# Altium integrated library TI Amplifiers and Linear Operational Amplifier General Purpose.IntLib: 1448 symbols (part 40 of 51)
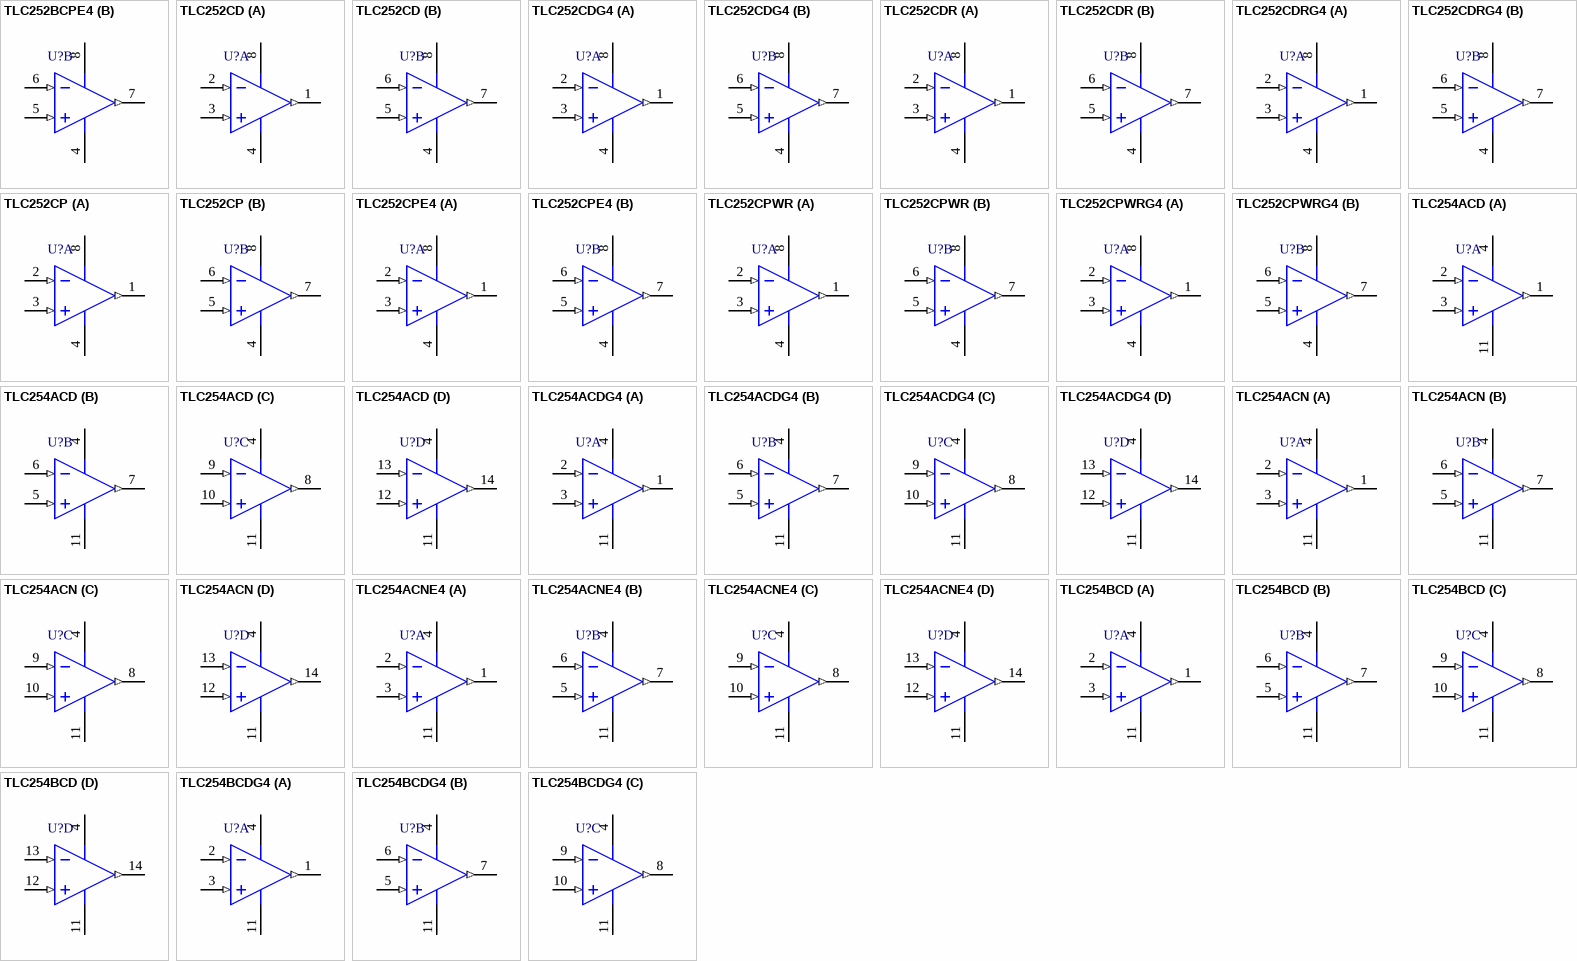
[diagram p130: symbols TLC252BCPE4 to TLC254BCDG4]

## TLC252CDRG4
designator U?
Dual Low-Voltage Operational Amplifier, 1.4 to 16 V, 0 to 70 degC, 8-pin SOIC (D8), Green (RoHS & no Sb/Br); Manufacturer: Texas Instruments; PartNumber: TLC252CDRG4; CMRR(Min)(dB): 65; GBW(Typ)(MHz): 1.7; IIB(Max)(pA): 60; Iq per channel(Max)(mA): 1.6; Number of Channels: 2; Offset Drift(Typ)(uV/C): 1.8; Rating: Catalog; Slew Rate(Typ)(V/us): 3.6; Sub Family: General Purpose Amplifier, Low Supply Voltage Amplifier (<=2.7V); Total Supply Voltage(Max)(+5V is 5, +/-5V is 10): 16; Total Supply Voltage(Min)(+5V is 5, +/-5V is 10): 1.4; Vio (25C)(Max)(mV): 10; Vn at 1kHz(Typ)(nV/rtHz): 25; DatasheetVersion: SLOS002I; PackageVersion: 4040047-3/M, 06/2011; PackageReference: D8; PackageDescription: 8-Pin Plastic Small Outline, Body 4.9 x 3.9 mm, Pitch 1.27 mm; Supplier 1: Digi-Key; Supplier Part Number 1: TLC252CDRG4-ND; Supplier 2: Mouser; Supplier Part Number 2: 595-TLC252CDRG4; Eco-Plan: Green (RoHS & no Sb/Br); Mounting Technology: Surface Mount; Code_JEDEC: MS-012; ComponentLink1Description: Manufacturer URL; ComponentLink1URL: http://www.ti.com/; ComponentLink2Description: Datasheet; ComponentLink2URL: http://www.ti.com/lit/ds/symlink/tlc252.pdf; ComponentLink3Description: Package Specification; ComponentLink3URL: http://www.ti.com/litv/pdf/msoi002j
footprint TI-D8_N (SOIC, 8-Leads, Body 4.9x3.9mm, Pitch 1.27mm, IPC Medium Density)
footprint TI-D8_L (SOIC, 8-Leads, Body 4.9x3.9mm, Pitch 1.27mm, IPC High Density)
footprint TI-D8_M (SOIC, 8-Leads, Body 4.9x3.9mm, Pitch 1.27mm, IPC Low Density)
pins on every part: 4 VDD-/GND (power), 8 VDD (power)
part A pins: 1 OUT1 (out), 2 IN1- (in), 3 IN1+ (in)
part B pins: 5 IN2+ (in), 6 IN2- (in), 7 OUT2 (out)

## TLC252CP
designator U?
Dual Low-Voltage Operational Amplifier, 1.4 to 16 V, 0 to 70 degC, 8-pin DIP (P8), Pb-Free (RoHS); Manufacturer: Texas Instruments; PartNumber: TLC252CP; CMRR(Min)(dB): 65; GBW(Typ)(MHz): 1.7; IIB(Max)(pA): 60; Iq per channel(Max)(mA): 1.6; Number of Channels: 2; Offset Drift(Typ)(uV/C): 1.8; Rating: Catalog; Slew Rate(Typ)(V/us): 3.6; Sub Family: General Purpose Amplifier, Low Supply Voltage Amplifier (<=2.7V); Total Supply Voltage(Max)(+5V is 5, +/-5V is 10): 16; Total Supply Voltage(Min)(+5V is 5, +/-5V is 10): 1.4; Vio (25C)(Max)(mV): 10; Vn at 1kHz(Typ)(nV/rtHz): 25; DatasheetVersion: SLOS002I; PackageVersion: 4040082/E, 04/2010; PackageReference: P8; PackageDescription: 8-Pin Plastic In-Line, Body 9.59 x 6.35 mm, Pitch 2.54 mm; Supplier 1: Digi-Key; Supplier Part Number 1: 296-10252-5-ND; Supplier 2: Newark; Supplier Part Number 2: 08F9041; Supplier 3: Mouser; Supplier Part Number 3: 595-TLC252CP; Eco-Plan: Pb-Free (RoHS); Mounting Technology: Through Hole; Code_JEDEC: MS-001; ComponentLink1Description: Manufacturer URL; ComponentLink1URL: http://www.ti.com/; ComponentLink2Description: Datasheet; ComponentLink2URL: http://www.ti.com/lit/ds/symlink/tlc252.pdf; ComponentLink3Description: Package Specification; ComponentLink3URL: http://www.ti.com/litv/pdf/mpdi001b
footprint TI-P8 (DIP, 8-Leads, Body 9.59x6.35mm, Pitch 2.54mm)
pins on every part: 4 VDD-/GND (power), 8 VDD (power)
part A pins: 1 OUT1 (out), 2 IN1- (in), 3 IN1+ (in)
part B pins: 5 IN2+ (in), 6 IN2- (in), 7 OUT2 (out)

## TLC252CPE4
designator U?
Dual Low-Voltage Operational Amplifier, 1.4 to 16 V, 0 to 70 degC, 8-pin DIP (P8), Pb-Free (RoHS); Manufacturer: Texas Instruments; PartNumber: TLC252CPE4; CMRR(Min)(dB): 65; GBW(Typ)(MHz): 1.7; IIB(Max)(pA): 60; Iq per channel(Max)(mA): 1.6; Number of Channels: 2; Offset Drift(Typ)(uV/C): 1.8; Rating: Catalog; Slew Rate(Typ)(V/us): 3.6; Sub Family: General Purpose Amplifier, Low Supply Voltage Amplifier (<=2.7V); Total Supply Voltage(Max)(+5V is 5, +/-5V is 10): 16; Total Supply Voltage(Min)(+5V is 5, +/-5V is 10): 1.4; Vio (25C)(Max)(mV): 10; Vn at 1kHz(Typ)(nV/rtHz): 25; DatasheetVersion: SLOS002I; PackageVersion: 4040082/E, 04/2010; PackageReference: P8; PackageDescription: 8-Pin Plastic In-Line, Body 9.59 x 6.35 mm, Pitch 2.54 mm; Supplier 1: Digi-Key; Supplier Part Number 1: TLC252CPE4-ND; Supplier 2: Newark; Supplier Part Number 2: 24K5200; Supplier 3: Mouser; Supplier Part Number 3: 595-TLC252CPE4; Eco-Plan: Pb-Free (RoHS); Mounting Technology: Through Hole; Code_JEDEC: MS-001; ComponentLink1Description: Manufacturer URL; ComponentLink1URL: http://www.ti.com/; ComponentLink2Description: Datasheet; ComponentLink2URL: http://www.ti.com/lit/ds/symlink/tlc252.pdf; ComponentLink3Description: Package Specification; ComponentLink3URL: http://www.ti.com/litv/pdf/mpdi001b
footprint TI-P8 (DIP, 8-Leads, Body 9.59x6.35mm, Pitch 2.54mm)
pins on every part: 4 VDD-/GND (power), 8 VDD (power)
part A pins: 1 OUT1 (out), 2 IN1- (in), 3 IN1+ (in)
part B pins: 5 IN2+ (in), 6 IN2- (in), 7 OUT2 (out)

## TLC252CPWR
designator U?
Dual Low-Voltage Operational Amplifier, 1.4 to 16 V, 0 to 70 degC, 8-pin SOP (PW8), Green (RoHS & no Sb/Br); Manufacturer: Texas Instruments; PartNumber: TLC252CPWR; CMRR(Min)(dB): 65; GBW(Typ)(MHz): 1.7; IIB(Max)(pA): 60; Iq per channel(Max)(mA): 1.6; Number of Channels: 2; Offset Drift(Typ)(uV/C): 1.8; Rating: Catalog; Slew Rate(Typ)(V/us): 3.6; Sub Family: General Purpose Amplifier, Low Supply Voltage Amplifier (<=2.7V); Total Supply Voltage(Max)(+5V is 5, +/-5V is 10): 16; Total Supply Voltage(Min)(+5V is 5, +/-5V is 10): 1.4; Vio (25C)(Max)(mV): 10; Vn at 1kHz(Typ)(nV/rtHz): 25; DatasheetVersion: SLOS002I; PackageVersion: 4040064-2/G, 02/2011; PackageReference: PW8; PackageDescription: 8-Pin Plastic Small Outline, Body 4.4 x 3 mm, Pitch 0.65 mm; Supplier 1: Digi-Key; Supplier Part Number 1: 296-10253-2-ND; Supplier 2: Digi-Key; Supplier Part Number 2: 296-10253-1-ND; Supplier 3: Digi-Key; Supplier Part Number 3: 296-10253-6-ND; Supplier 4: Mouser; Supplier Part Number 4: 595-TLC252CPWR; Eco-Plan: Green (RoHS & no Sb/Br); Mounting Technology: Surface Mount; Code_JEDEC: MO-153; ComponentLink1Description: Manufacturer URL; ComponentLink1URL: http://www.ti.com/; ComponentLink2Description: Datasheet; ComponentLink2URL: http://www.ti.com/lit/ds/symlink/tlc252.pdf; ComponentLink3Description: Package Specification; ComponentLink3URL: http://www.ti.com/litv/pdf/mtss001d
footprint TI-PW8_N (SOP, 8-Leads, Body 4.4x3mm, Pitch 0.65mm, IPC Medium Density)
footprint TI-PW8_L (SOP, 8-Leads, Body 4.4x3mm, Pitch 0.65mm, IPC High Density)
footprint TI-PW8_M (SOP, 8-Leads, Body 4.4x3mm, Pitch 0.65mm, IPC Low Density)
pins on every part: 4 VDD-/GND (power), 8 VDD (power)
part A pins: 1 OUT1 (out), 2 IN1- (in), 3 IN1+ (in)
part B pins: 5 IN2+ (in), 6 IN2- (in), 7 OUT2 (out)

## TLC252CPWRG4
designator U?
Dual Low-Voltage Operational Amplifier, 1.4 to 16 V, 0 to 70 degC, 8-pin SOP (PW8), Green (RoHS & no Sb/Br); Manufacturer: Texas Instruments; PartNumber: TLC252CPWRG4; CMRR(Min)(dB): 65; GBW(Typ)(MHz): 1.7; IIB(Max)(pA): 60; Iq per channel(Max)(mA): 1.6; Number of Channels: 2; Offset Drift(Typ)(uV/C): 1.8; Rating: Catalog; Slew Rate(Typ)(V/us): 3.6; Sub Family: General Purpose Amplifier, Low Supply Voltage Amplifier (<=2.7V); Total Supply Voltage(Max)(+5V is 5, +/-5V is 10): 16; Total Supply Voltage(Min)(+5V is 5, +/-5V is 10): 1.4; Vio (25C)(Max)(mV): 10; Vn at 1kHz(Typ)(nV/rtHz): 25; DatasheetVersion: SLOS002I; PackageVersion: 4040064-2/G, 02/2011; PackageReference: PW8; PackageDescription: 8-Pin Plastic Small Outline, Body 4.4 x 3 mm, Pitch 0.65 mm; Supplier 1: Digi-Key; Supplier Part Number 1: TLC252CPWRG4-ND; Supplier 2: Mouser; Supplier Part Number 2: 595-TLC252CPWRG4; Eco-Plan: Green (RoHS & no Sb/Br); Mounting Technology: Surface Mount; Code_JEDEC: MO-153; ComponentLink1Description: Manufacturer URL; ComponentLink1URL: http://www.ti.com/; ComponentLink2Description: Datasheet; ComponentLink2URL: http://www.ti.com/lit/ds/symlink/tlc252.pdf; ComponentLink3Description: Package Specification; ComponentLink3URL: http://www.ti.com/litv/pdf/mtss001d
footprint TI-PW8_N (SOP, 8-Leads, Body 4.4x3mm, Pitch 0.65mm, IPC Medium Density)
footprint TI-PW8_L (SOP, 8-Leads, Body 4.4x3mm, Pitch 0.65mm, IPC High Density)
footprint TI-PW8_M (SOP, 8-Leads, Body 4.4x3mm, Pitch 0.65mm, IPC Low Density)
pins on every part: 4 VDD-/GND (power), 8 VDD (power)
part A pins: 1 OUT1 (out), 2 IN1- (in), 3 IN1+ (in)
part B pins: 5 IN2+ (in), 6 IN2- (in), 7 OUT2 (out)

## TLC254ACD
designator U?
LinCMOS(TM) Quad Operational Amplifier, 1.4 to 16 V, 0 to 70 degC, 14-pin SOIC (D14), Green (RoHS & no Sb/Br); Manufacturer: Texas Instruments; PartNumber: TLC254ACD; CMRR(Min)(dB): 65; GBW(Typ)(MHz): 1.7; IIB(Max)(pA): 60; Iq per channel(Max)(mA): 1.5; Number of Channels: 4; Offset Drift(Typ)(uV/C): 1.8; Rating: Catalog; Slew Rate(Typ)(V/us): 3.6; Sub Family: General Purpose Amplifier, Low Supply Voltage Amplifier (<=2.7V); Total Supply Voltage(Max)(+5V is 5, +/-5V is 10): 16; Total Supply Voltage(Min)(+5V is 5, +/-5V is 10): 1.4; Vio (25C)(Max)(mV): 5; Vn at 1kHz(Typ)(nV/rtHz): 25; DatasheetVersion: SLOS003G; PackageVersion: 4040047-5/M, 06/2011; PackageReference: D14; PackageDescription: 14-Pin Plastic Small Outline, Body 8.65 x 3.90 mm, Pitch 1.27 mm; Supplier 1: Digi-Key; Supplier Part Number 1: 296-2902-5-ND; Supplier 2: Mouser; Supplier Part Number 2: 595-TLC254ACD; Eco-Plan: Green (RoHS & no Sb/Br); Mounting Technology: Surface Mount; Code_JEDEC: MS-012; ComponentLink1Description: Manufacturer URL; ComponentLink1URL: http://www.ti.com/; ComponentLink2Description: Datasheet; ComponentLink2URL: http://www.ti.com/lit/ds/symlink/tlc254a.pdf; ComponentLink3Description: Package Specification; ComponentLink3URL: http://www.ti.com/lit/ml/mpds177g/mpds177g.pdf
footprint TI-D14_N (SOIC, 14-Leads, Body 8.65x3.90mm, Pitch 1.27mm, IPC Medium Density)
footprint TI-D14_L (SOIC, 14-Leads, Body 8.65x3.90mm, Pitch 1.27mm, IPC High Density)
footprint TI-D14_M (SOIC, 14-Leads, Body 8.65x3.90mm, Pitch 1.27mm, IPC Low Density)
pins on every part: 4 VDD (power), 11 VDD-/GND (power)
part A pins: 1 OUT1 (out), 2 IN1- (in), 3 IN1+ (in)
part B pins: 5 IN2+ (in), 6 IN2- (in), 7 OUT2 (out)
part C pins: 8 OUT3 (out), 9 IN3- (in), 10 IN3+ (in)
part D pins: 12 IN4+ (in), 13 IN4- (in), 14 OUT4 (out)

## TLC254ACDG4
designator U?
LinCMOS(TM) Quad Operational Amplifier, 1.4 to 16 V, 0 to 70 degC, 14-pin SOIC (D14), Green (RoHS & no Sb/Br); Manufacturer: Texas Instruments; PartNumber: TLC254ACDG4; CMRR(Min)(dB): 65; GBW(Typ)(MHz): 1.7; IIB(Max)(pA): 60; Iq per channel(Max)(mA): 1.5; Number of Channels: 4; Offset Drift(Typ)(uV/C): 1.8; Rating: Catalog; Slew Rate(Typ)(V/us): 3.6; Sub Family: General Purpose Amplifier, Low Supply Voltage Amplifier (<=2.7V); Total Supply Voltage(Max)(+5V is 5, +/-5V is 10): 16; Total Supply Voltage(Min)(+5V is 5, +/-5V is 10): 1.4; Vio (25C)(Max)(mV): 5; Vn at 1kHz(Typ)(nV/rtHz): 25; DatasheetVersion: SLOS003G; PackageVersion: 4040047-5/M, 06/2011; PackageReference: D14; PackageDescription: 14-Pin Plastic Small Outline, Body 8.65 x 3.90 mm, Pitch 1.27 mm; Supplier 1: Digi-Key; Supplier Part Number 1: TLC254ACDG4-ND; Supplier 2: Mouser; Supplier Part Number 2: 595-TLC254ACDG4; Eco-Plan: Green (RoHS & no Sb/Br); Mounting Technology: Surface Mount; Code_JEDEC: MS-012; ComponentLink1Description: Manufacturer URL; ComponentLink1URL: http://www.ti.com/; ComponentLink2Description: Datasheet; ComponentLink2URL: http://www.ti.com/lit/ds/symlink/tlc254a.pdf; ComponentLink3Description: Package Specification; ComponentLink3URL: http://www.ti.com/lit/ml/mpds177g/mpds177g.pdf
footprint TI-D14_N (SOIC, 14-Leads, Body 8.65x3.90mm, Pitch 1.27mm, IPC Medium Density)
footprint TI-D14_L (SOIC, 14-Leads, Body 8.65x3.90mm, Pitch 1.27mm, IPC High Density)
footprint TI-D14_M (SOIC, 14-Leads, Body 8.65x3.90mm, Pitch 1.27mm, IPC Low Density)
pins on every part: 4 VDD (power), 11 VDD-/GND (power)
part A pins: 1 OUT1 (out), 2 IN1- (in), 3 IN1+ (in)
part B pins: 5 IN2+ (in), 6 IN2- (in), 7 OUT2 (out)
part C pins: 8 OUT3 (out), 9 IN3- (in), 10 IN3+ (in)
part D pins: 12 IN4+ (in), 13 IN4- (in), 14 OUT4 (out)

## TLC254ACN
designator U?
LinCMOS(TM) Quad Operational Amplifier, 1.4 to 16 V, 0 to 70 degC, 14-pin DIP (N14), Pb-Free (RoHS); Manufacturer: Texas Instruments; PartNumber: TLC254ACN; CMRR(Min)(dB): 65; GBW(Typ)(MHz): 1.7; IIB(Max)(pA): 60; Iq per channel(Max)(mA): 1.5; Number of Channels: 4; Offset Drift(Typ)(uV/C): 1.8; Rating: Catalog; Slew Rate(Typ)(V/us): 3.6; Sub Family: General Purpose Amplifier, Low Supply Voltage Amplifier (<=2.7V); Total Supply Voltage(Max)(+5V is 5, +/-5V is 10): 16; Total Supply Voltage(Min)(+5V is 5, +/-5V is 10): 1.4; Vio (25C)(Max)(mV): 5; Vn at 1kHz(Typ)(nV/rtHz): 25; DatasheetVersion: SLOS003G; PackageVersion: 4040049/E, 12/2002; PackageReference: N14; PackageDescription: 14-Pin Plastic In-Line, Body 19.305 x 6.35 mm, Pitch 2.54 mm; Supplier 1: Digi-Key; Supplier Part Number 1: 296-2903-5-ND; Supplier 2: Mouser; Supplier Part Number 2: 595-TLC254ACN; Eco-Plan: Pb-Free (RoHS); Mounting Technology: Through Hole; Code_JEDEC: MS-001; ComponentLink1Description: Manufacturer URL; ComponentLink1URL: http://www.ti.com/; ComponentLink2Description: Datasheet; ComponentLink2URL: http://www.ti.com/lit/ds/symlink/tlc254a.pdf; ComponentLink3Description: Package Specification; ComponentLink3URL: http://www.ti.com/lit/ml/mpdi002c/mpdi002c.pdf
footprint TI-N14 (DIP, 14-Leads, Body 19.305x6.35 mm, Pitch 2.54 mm)
pins on every part: 4 VDD (power), 11 VDD-/GND (power)
part A pins: 1 OUT1 (out), 2 IN1- (in), 3 IN1+ (in)
part B pins: 5 IN2+ (in), 6 IN2- (in), 7 OUT2 (out)
part C pins: 8 OUT3 (out), 9 IN3- (in), 10 IN3+ (in)
part D pins: 12 IN4+ (in), 13 IN4- (in), 14 OUT4 (out)

## TLC254ACNE4
designator U?
LinCMOS(TM) Quad Operational Amplifier, 1.4 to 16 V, 0 to 70 degC, 14-pin DIP (N14), Pb-Free (RoHS); Manufacturer: Texas Instruments; PartNumber: TLC254ACNE4; CMRR(Min)(dB): 65; GBW(Typ)(MHz): 1.7; IIB(Max)(pA): 60; Iq per channel(Max)(mA): 1.5; Number of Channels: 4; Offset Drift(Typ)(uV/C): 1.8; Rating: Catalog; Slew Rate(Typ)(V/us): 3.6; Sub Family: General Purpose Amplifier, Low Supply Voltage Amplifier (<=2.7V); Total Supply Voltage(Max)(+5V is 5, +/-5V is 10): 16; Total Supply Voltage(Min)(+5V is 5, +/-5V is 10): 1.4; Vio (25C)(Max)(mV): 5; Vn at 1kHz(Typ)(nV/rtHz): 25; DatasheetVersion: SLOS003G; PackageVersion: 4040049/E, 12/2002; PackageReference: N14; PackageDescription: 14-Pin Plastic In-Line, Body 19.305 x 6.35 mm, Pitch 2.54 mm; Supplier 1: Digi-Key; Supplier Part Number 1: TLC254ACNE4-ND; Supplier 2: Mouser; Supplier Part Number 2: 595-TLC254ACNE4; Eco-Plan: Pb-Free (RoHS); Mounting Technology: Through Hole; Code_JEDEC: MS-001; ComponentLink1Description: Manufacturer URL; ComponentLink1URL: http://www.ti.com/; ComponentLink2Description: Datasheet; ComponentLink2URL: http://www.ti.com/lit/ds/symlink/tlc254a.pdf; ComponentLink3Description: Package Specification; ComponentLink3URL: http://www.ti.com/lit/ml/mpdi002c/mpdi002c.pdf
footprint TI-N14 (DIP, 14-Leads, Body 19.305x6.35 mm, Pitch 2.54 mm)
pins on every part: 4 VDD (power), 11 VDD-/GND (power)
part A pins: 1 OUT1 (out), 2 IN1- (in), 3 IN1+ (in)
part B pins: 5 IN2+ (in), 6 IN2- (in), 7 OUT2 (out)
part C pins: 8 OUT3 (out), 9 IN3- (in), 10 IN3+ (in)
part D pins: 12 IN4+ (in), 13 IN4- (in), 14 OUT4 (out)

## TLC254BCD
designator U?
LinCMOS(TM) Quad Operational Amplifier, 1.4 to 16 V, 0 to 70 degC, 14-pin SOIC (D14), Green (RoHS & no Sb/Br); Manufacturer: Texas Instruments; PartNumber: TLC254BCD; CMRR(Min)(dB): 65; GBW(Typ)(MHz): 1.7; IIB(Max)(pA): 60; Iq per channel(Max)(mA): 1.5; Number of Channels: 4; Offset Drift(Typ)(uV/C): 1.8; Rating: Catalog; Slew Rate(Typ)(V/us): 3.6; Sub Family: General Purpose Amplifier, Low Supply Voltage Amplifier (<=2.7V); Total Supply Voltage(Max)(+5V is 5, +/-5V is 10): 16; Total Supply Voltage(Min)(+5V is 5, +/-5V is 10): 1.4; Vio (25C)(Max)(mV): 2; Vn at 1kHz(Typ)(nV/rtHz): 25; DatasheetVersion: SLOS003G; PackageVersion: 4040047-5/M, 06/2011; PackageReference: D14; PackageDescription: 14-Pin Plastic Small Outline, Body 8.65 x 3.90 mm, Pitch 1.27 mm; Supplier 1: Digi-Key; Supplier Part Number 1: 296-2904-5-ND; Supplier 2: Mouser; Supplier Part Number 2: 595-TLC254BCD; Eco-Plan: Green (RoHS & no Sb/Br); Mounting Technology: Surface Mount; Code_JEDEC: MS-012; ComponentLink1Description: Manufacturer URL; ComponentLink1URL: http://www.ti.com/; ComponentLink2Description: Datasheet; ComponentLink2URL: http://www.ti.com/lit/ds/symlink/tlc254b.pdf; ComponentLink3Description: Package Specification; ComponentLink3URL: http://www.ti.com/lit/ml/mpds177g/mpds177g.pdf
footprint TI-D14_N (SOIC, 14-Leads, Body 8.65x3.90mm, Pitch 1.27mm, IPC Medium Density)
footprint TI-D14_L (SOIC, 14-Leads, Body 8.65x3.90mm, Pitch 1.27mm, IPC High Density)
footprint TI-D14_M (SOIC, 14-Leads, Body 8.65x3.90mm, Pitch 1.27mm, IPC Low Density)
pins on every part: 4 VDD (power), 11 VDD-/GND (power)
part A pins: 1 OUT1 (out), 2 IN1- (in), 3 IN1+ (in)
part B pins: 5 IN2+ (in), 6 IN2- (in), 7 OUT2 (out)
part C pins: 8 OUT3 (out), 9 IN3- (in), 10 IN3+ (in)
part D pins: 12 IN4+ (in), 13 IN4- (in), 14 OUT4 (out)

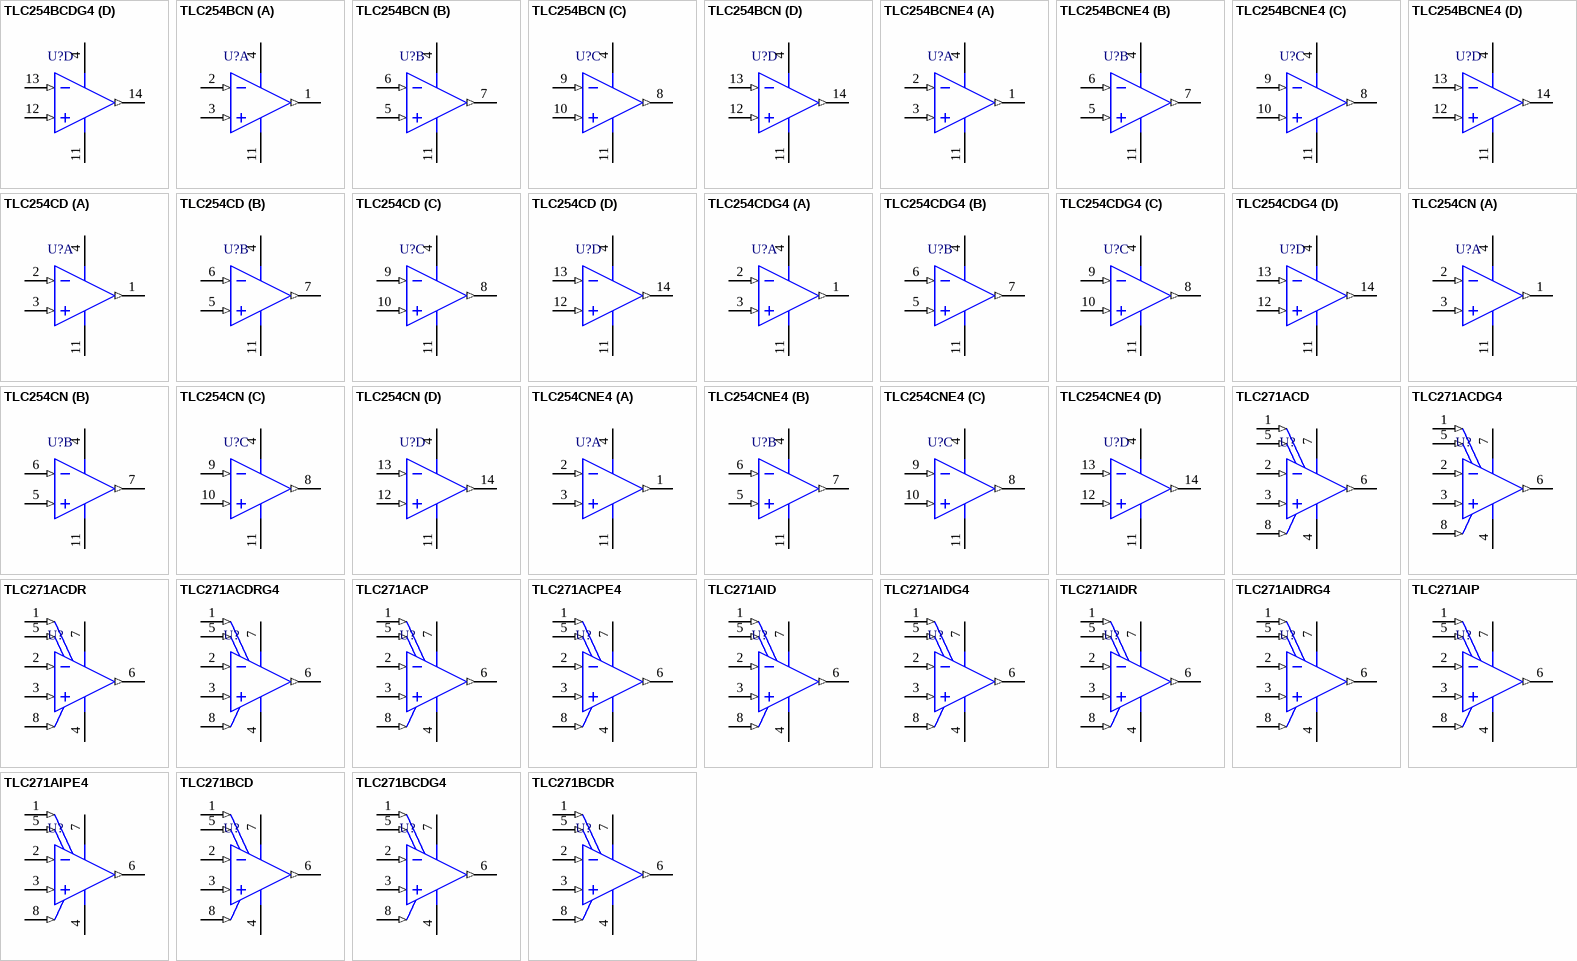
[diagram p70: symbols TLC254BCDG4 to TLC271BCDR]

## TLC254BCDG4
designator U?
LinCMOS(TM) Quad Operational Amplifier, 1.4 to 16 V, 0 to 70 degC, 14-pin SOIC (D14), Green (RoHS & no Sb/Br); Manufacturer: Texas Instruments; PartNumber: TLC254BCDG4; CMRR(Min)(dB): 65; GBW(Typ)(MHz): 1.7; IIB(Max)(pA): 60; Iq per channel(Max)(mA): 1.5; Number of Channels: 4; Offset Drift(Typ)(uV/C): 1.8; Rating: Catalog; Slew Rate(Typ)(V/us): 3.6; Sub Family: General Purpose Amplifier, Low Supply Voltage Amplifier (<=2.7V); Total Supply Voltage(Max)(+5V is 5, +/-5V is 10): 16; Total Supply Voltage(Min)(+5V is 5, +/-5V is 10): 1.4; Vio (25C)(Max)(mV): 2; Vn at 1kHz(Typ)(nV/rtHz): 25; DatasheetVersion: SLOS003G; PackageVersion: 4040047-5/M, 06/2011; PackageReference: D14; PackageDescription: 14-Pin Plastic Small Outline, Body 8.65 x 3.90 mm, Pitch 1.27 mm; Supplier 1: Digi-Key; Supplier Part Number 1: TLC254BCDG4-ND; Supplier 2: Newark; Supplier Part Number 2: 27M0959; Supplier 3: Mouser; Supplier Part Number 3: 595-TLC254BCDG4; Eco-Plan: Green (RoHS & no Sb/Br); Mounting Technology: Surface Mount; Code_JEDEC: MS-012; ComponentLink1Description: Manufacturer URL; ComponentLink1URL: http://www.ti.com/; ComponentLink2Description: Datasheet; ComponentLink2URL: http://www.ti.com/lit/ds/symlink/tlc254b.pdf; ComponentLink3Description: Package Specification; ComponentLink3URL: http://www.ti.com/lit/ml/mpds177g/mpds177g.pdf
footprint TI-D14_N (SOIC, 14-Leads, Body 8.65x3.90mm, Pitch 1.27mm, IPC Medium Density)
footprint TI-D14_L (SOIC, 14-Leads, Body 8.65x3.90mm, Pitch 1.27mm, IPC High Density)
footprint TI-D14_M (SOIC, 14-Leads, Body 8.65x3.90mm, Pitch 1.27mm, IPC Low Density)
pins on every part: 4 VDD (power), 11 VDD-/GND (power)
part A pins: 1 OUT1 (out), 2 IN1- (in), 3 IN1+ (in)
part B pins: 5 IN2+ (in), 6 IN2- (in), 7 OUT2 (out)
part C pins: 8 OUT3 (out), 9 IN3- (in), 10 IN3+ (in)
part D pins: 12 IN4+ (in), 13 IN4- (in), 14 OUT4 (out)

## TLC254BCN
designator U?
LinCMOS(TM) Quad Operational Amplifier, 1.4 to 16 V, 0 to 70 degC, 14-pin DIP (N14), Pb-Free (RoHS); Manufacturer: Texas Instruments; PartNumber: TLC254BCN; CMRR(Min)(dB): 65; GBW(Typ)(MHz): 1.7; IIB(Max)(pA): 60; Iq per channel(Max)(mA): 1.5; Number of Channels: 4; Offset Drift(Typ)(uV/C): 1.8; Rating: Catalog; Slew Rate(Typ)(V/us): 3.6; Sub Family: General Purpose Amplifier, Low Supply Voltage Amplifier (<=2.7V); Total Supply Voltage(Max)(+5V is 5, +/-5V is 10): 16; Total Supply Voltage(Min)(+5V is 5, +/-5V is 10): 1.4; Vio (25C)(Max)(mV): 2; Vn at 1kHz(Typ)(nV/rtHz): 25; DatasheetVersion: SLOS003G; PackageVersion: 4040049/E, 12/2002; PackageReference: N14; PackageDescription: 14-Pin Plastic In-Line, Body 19.305 x 6.35 mm, Pitch 2.54 mm; Supplier 1: Digi-Key; Supplier Part Number 1: 296-2905-5-ND; Supplier 2: Newark; Supplier Part Number 2: 08F9043; Supplier 3: Mouser; Supplier Part Number 3: 595-TLC254BCN; Eco-Plan: Pb-Free (RoHS); Mounting Technology: Through Hole; Code_JEDEC: MS-001; ComponentLink1Description: Manufacturer URL; ComponentLink1URL: http://www.ti.com/; ComponentLink2Description: Datasheet; ComponentLink2URL: http://www.ti.com/lit/ds/symlink/tlc254b.pdf; ComponentLink3Description: Package Specification; ComponentLink3URL: http://www.ti.com/lit/ml/mpdi002c/mpdi002c.pdf
footprint TI-N14 (DIP, 14-Leads, Body 19.305x6.35 mm, Pitch 2.54 mm)
pins on every part: 4 VDD (power), 11 VDD-/GND (power)
part A pins: 1 OUT1 (out), 2 IN1- (in), 3 IN1+ (in)
part B pins: 5 IN2+ (in), 6 IN2- (in), 7 OUT2 (out)
part C pins: 8 OUT3 (out), 9 IN3- (in), 10 IN3+ (in)
part D pins: 12 IN4+ (in), 13 IN4- (in), 14 OUT4 (out)

## TLC254BCNE4
designator U?
LinCMOS(TM) Quad Operational Amplifier, 1.4 to 16 V, 0 to 70 degC, 14-pin DIP (N14), Pb-Free (RoHS); Manufacturer: Texas Instruments; PartNumber: TLC254BCNE4; CMRR(Min)(dB): 65; GBW(Typ)(MHz): 1.7; IIB(Max)(pA): 60; Iq per channel(Max)(mA): 1.5; Number of Channels: 4; Offset Drift(Typ)(uV/C): 1.8; Rating: Catalog; Slew Rate(Typ)(V/us): 3.6; Sub Family: General Purpose Amplifier, Low Supply Voltage Amplifier (<=2.7V); Total Supply Voltage(Max)(+5V is 5, +/-5V is 10): 16; Total Supply Voltage(Min)(+5V is 5, +/-5V is 10): 1.4; Vio (25C)(Max)(mV): 2; Vn at 1kHz(Typ)(nV/rtHz): 25; DatasheetVersion: SLOS003G; PackageVersion: 4040049/E, 12/2002; PackageReference: N14; PackageDescription: 14-Pin Plastic In-Line, Body 19.305 x 6.35 mm, Pitch 2.54 mm; Supplier 1: Digi-Key; Supplier Part Number 1: TLC254BCNE4-ND; Supplier 2: Mouser; Supplier Part Number 2: 595-TLC254BCNE4; Eco-Plan: Pb-Free (RoHS); Mounting Technology: Through Hole; Code_JEDEC: MS-001; ComponentLink1Description: Manufacturer URL; ComponentLink1URL: http://www.ti.com/; ComponentLink2Description: Datasheet; ComponentLink2URL: http://www.ti.com/lit/ds/symlink/tlc254b.pdf; ComponentLink3Description: Package Specification; ComponentLink3URL: http://www.ti.com/lit/ml/mpdi002c/mpdi002c.pdf
footprint TI-N14 (DIP, 14-Leads, Body 19.305x6.35 mm, Pitch 2.54 mm)
pins on every part: 4 VDD (power), 11 VDD-/GND (power)
part A pins: 1 OUT1 (out), 2 IN1- (in), 3 IN1+ (in)
part B pins: 5 IN2+ (in), 6 IN2- (in), 7 OUT2 (out)
part C pins: 8 OUT3 (out), 9 IN3- (in), 10 IN3+ (in)
part D pins: 12 IN4+ (in), 13 IN4- (in), 14 OUT4 (out)

## TLC254CD
designator U?
Quad Low-Voltage Operational Amplifier, 1.4 to 16 V, 0 to 70 degC, 14-pin SOIC (D14), Green (RoHS & no Sb/Br); Manufacturer: Texas Instruments; PartNumber: TLC254CD; CMRR(Min)(dB): 65; GBW(Typ)(MHz): 1.7; IIB(Max)(pA): 60; Iq per channel(Max)(mA): 1.6; Number of Channels: 4; Offset Drift(Typ)(uV/C): 1.8; Rating: Catalog; Slew Rate(Typ)(V/us): 3.6; Sub Family: General Purpose Amplifier, Low Supply Voltage Amplifier (<=2.7V); Total Supply Voltage(Max)(+5V is 5, +/-5V is 10): 16; Total Supply Voltage(Min)(+5V is 5, +/-5V is 10): 1.4; Vio (25C)(Max)(mV): 10; Vn at 1kHz(Typ)(nV/rtHz): 25; DatasheetVersion: SLOS003G; PackageVersion: 4040047-5/M, 06/2011; PackageReference: D14; PackageDescription: 14-Pin Plastic Small Outline, Body 8.65 x 3.90 mm, Pitch 1.27 mm; Supplier 1: Digi-Key; Supplier Part Number 1: 296-2906-5-ND; Supplier 2: Newark; Supplier Part Number 2: 76C6980; Supplier 3: Mouser; Supplier Part Number 3: 595-TLC254CD; Eco-Plan: Green (RoHS & no Sb/Br); Mounting Technology: Surface Mount; Code_JEDEC: MS-012; ComponentLink1Description: Manufacturer URL; ComponentLink1URL: http://www.ti.com/; ComponentLink2Description: Datasheet; ComponentLink2URL: http://www.ti.com/lit/ds/symlink/tlc254.pdf; ComponentLink3Description: Package Specification; ComponentLink3URL: http://www.ti.com/lit/ml/mpds177g/mpds177g.pdf
footprint TI-D14_N (SOIC, 14-Leads, Body 8.65x3.90mm, Pitch 1.27mm, IPC Medium Density)
footprint TI-D14_L (SOIC, 14-Leads, Body 8.65x3.90mm, Pitch 1.27mm, IPC High Density)
footprint TI-D14_M (SOIC, 14-Leads, Body 8.65x3.90mm, Pitch 1.27mm, IPC Low Density)
pins on every part: 4 VDD (power), 11 VDD-/GND (power)
part A pins: 1 OUT1 (out), 2 IN1- (in), 3 IN1+ (in)
part B pins: 5 IN2+ (in), 6 IN2- (in), 7 OUT2 (out)
part C pins: 8 OUT3 (out), 9 IN3- (in), 10 IN3+ (in)
part D pins: 12 IN4+ (in), 13 IN4- (in), 14 OUT4 (out)

## TLC254CDG4
designator U?
Quad Low-Voltage Operational Amplifier, 1.4 to 16 V, 0 to 70 degC, 14-pin SOIC (D14), Green (RoHS & no Sb/Br); Manufacturer: Texas Instruments; PartNumber: TLC254CDG4; CMRR(Min)(dB): 65; GBW(Typ)(MHz): 1.7; IIB(Max)(pA): 60; Iq per channel(Max)(mA): 1.6; Number of Channels: 4; Offset Drift(Typ)(uV/C): 1.8; Rating: Catalog; Slew Rate(Typ)(V/us): 3.6; Sub Family: General Purpose Amplifier, Low Supply Voltage Amplifier (<=2.7V); Total Supply Voltage(Max)(+5V is 5, +/-5V is 10): 16; Total Supply Voltage(Min)(+5V is 5, +/-5V is 10): 1.4; Vio (25C)(Max)(mV): 10; Vn at 1kHz(Typ)(nV/rtHz): 25; DatasheetVersion: SLOS003G; PackageVersion: 4040047-5/M, 06/2011; PackageReference: D14; PackageDescription: 14-Pin Plastic Small Outline, Body 8.65 x 3.90 mm, Pitch 1.27 mm; Supplier 1: Digi-Key; Supplier Part Number 1: TLC254CDG4-ND; Supplier 2: Mouser; Supplier Part Number 2: 595-TLC254CDG4; Eco-Plan: Green (RoHS & no Sb/Br); Mounting Technology: Surface Mount; Code_JEDEC: MS-012; ComponentLink1Description: Manufacturer URL; ComponentLink1URL: http://www.ti.com/; ComponentLink2Description: Datasheet; ComponentLink2URL: http://www.ti.com/lit/ds/symlink/tlc254.pdf; ComponentLink3Description: Package Specification; ComponentLink3URL: http://www.ti.com/lit/ml/mpds177g/mpds177g.pdf
footprint TI-D14_N (SOIC, 14-Leads, Body 8.65x3.90mm, Pitch 1.27mm, IPC Medium Density)
footprint TI-D14_L (SOIC, 14-Leads, Body 8.65x3.90mm, Pitch 1.27mm, IPC High Density)
footprint TI-D14_M (SOIC, 14-Leads, Body 8.65x3.90mm, Pitch 1.27mm, IPC Low Density)
pins on every part: 4 VDD (power), 11 VDD-/GND (power)
part A pins: 1 OUT1 (out), 2 IN1- (in), 3 IN1+ (in)
part B pins: 5 IN2+ (in), 6 IN2- (in), 7 OUT2 (out)
part C pins: 8 OUT3 (out), 9 IN3- (in), 10 IN3+ (in)
part D pins: 12 IN4+ (in), 13 IN4- (in), 14 OUT4 (out)

## TLC254CN
designator U?
Quad Low-Voltage Operational Amplifier, 1.4 to 16 V, 0 to 70 degC, 14-pin DIP (N14), Pb-Free (RoHS); Manufacturer: Texas Instruments; PartNumber: TLC254CN; CMRR(Min)(dB): 65; GBW(Typ)(MHz): 1.7; IIB(Max)(pA): 60; Iq per channel(Max)(mA): 1.6; Number of Channels: 4; Offset Drift(Typ)(uV/C): 1.8; Rating: Catalog; Slew Rate(Typ)(V/us): 3.6; Sub Family: General Purpose Amplifier, Low Supply Voltage Amplifier (<=2.7V); Total Supply Voltage(Max)(+5V is 5, +/-5V is 10): 16; Total Supply Voltage(Min)(+5V is 5, +/-5V is 10): 1.4; Vio (25C)(Max)(mV): 10; Vn at 1kHz(Typ)(nV/rtHz): 25; DatasheetVersion: SLOS003G; PackageVersion: 4040049/E, 12/2002; PackageReference: N14; PackageDescription: 14-Pin Plastic In-Line, Body 19.305 x 6.35 mm, Pitch 2.54 mm; Supplier 1: Digi-Key; Supplier Part Number 1: 296-2907-5-ND; Supplier 2: Newark; Supplier Part Number 2: 08F9044; Supplier 3: Mouser; Supplier Part Number 3: 595-TLC254CN; Eco-Plan: Pb-Free (RoHS); Mounting Technology: Through Hole; Code_JEDEC: MS-001; ComponentLink1Description: Manufacturer URL; ComponentLink1URL: http://www.ti.com/; ComponentLink2Description: Datasheet; ComponentLink2URL: http://www.ti.com/lit/ds/symlink/tlc254.pdf; ComponentLink3Description: Package Specification; ComponentLink3URL: http://www.ti.com/lit/ml/mpdi002c/mpdi002c.pdf
footprint TI-N14 (DIP, 14-Leads, Body 19.305x6.35 mm, Pitch 2.54 mm)
pins on every part: 4 VDD (power), 11 VDD-/GND (power)
part A pins: 1 OUT1 (out), 2 IN1- (in), 3 IN1+ (in)
part B pins: 5 IN2+ (in), 6 IN2- (in), 7 OUT2 (out)
part C pins: 8 OUT3 (out), 9 IN3- (in), 10 IN3+ (in)
part D pins: 12 IN4+ (in), 13 IN4- (in), 14 OUT4 (out)

## TLC254CNE4
designator U?
Quad Low-Voltage Operational Amplifier, 1.4 to 16 V, 0 to 70 degC, 14-pin DIP (N14), Pb-Free (RoHS); Manufacturer: Texas Instruments; PartNumber: TLC254CNE4; CMRR(Min)(dB): 65; GBW(Typ)(MHz): 1.7; IIB(Max)(pA): 60; Iq per channel(Max)(mA): 1.6; Number of Channels: 4; Offset Drift(Typ)(uV/C): 1.8; Rating: Catalog; Slew Rate(Typ)(V/us): 3.6; Sub Family: General Purpose Amplifier, Low Supply Voltage Amplifier (<=2.7V); Total Supply Voltage(Max)(+5V is 5, +/-5V is 10): 16; Total Supply Voltage(Min)(+5V is 5, +/-5V is 10): 1.4; Vio (25C)(Max)(mV): 10; Vn at 1kHz(Typ)(nV/rtHz): 25; DatasheetVersion: SLOS003G; PackageVersion: 4040049/E, 12/2002; PackageReference: N14; PackageDescription: 14-Pin Plastic In-Line, Body 19.305 x 6.35 mm, Pitch 2.54 mm; Supplier 1: Digi-Key; Supplier Part Number 1: TLC254CNE4-ND; Supplier 2: Mouser; Supplier Part Number 2: 595-TLC254CNE4; Eco-Plan: Pb-Free (RoHS); Mounting Technology: Through Hole; Code_JEDEC: MS-001; ComponentLink1Description: Manufacturer URL; ComponentLink1URL: http://www.ti.com/; ComponentLink2Description: Datasheet; ComponentLink2URL: http://www.ti.com/lit/ds/symlink/tlc254.pdf; ComponentLink3Description: Package Specification; ComponentLink3URL: http://www.ti.com/lit/ml/mpdi002c/mpdi002c.pdf
footprint TI-N14 (DIP, 14-Leads, Body 19.305x6.35 mm, Pitch 2.54 mm)
pins on every part: 4 VDD (power), 11 VDD-/GND (power)
part A pins: 1 OUT1 (out), 2 IN1- (in), 3 IN1+ (in)
part B pins: 5 IN2+ (in), 6 IN2- (in), 7 OUT2 (out)
part C pins: 8 OUT3 (out), 9 IN3- (in), 10 IN3+ (in)
part D pins: 12 IN4+ (in), 13 IN4- (in), 14 OUT4 (out)

## TLC271ACD
designator U?
Programmable Low-Power Operational Amplifier, 3 to 16 V, 0 to 70 degC, 8-pin SOIC (D8), Green (RoHS & no Sb/Br); Manufacturer: Texas Instruments; PartNumber: TLC271ACD; CMRR(Min)(dB): 65; GBW(Typ)(MHz): 1.7; IIB(Max)(pA): 60; Iq per channel(Max)(mA): 1.6; Number of Channels: 1; Offset Drift(Typ)(uV/C): 1.8; Rating: Catalog; Slew Rate(Typ)(V/us): 3.6; Sub Family: General Purpose Amplifier; Total Supply Voltage(Max)(+5V is 5, +/-5V is 10): 16; Total Supply Voltage(Min)(+5V is 5, +/-5V is 10): 3; Vio (25C)(Max)(mV): 5; Vn at 1kHz(Typ)(nV/rtHz): 25; DatasheetVersion: SLOS090D; PackageVersion: 4040047-3/M, 06/2011; PackageReference: D8; PackageDescription: 8-Pin Plastic Small Outline, Body 4.9 x 3.9 mm, Pitch 1.27 mm; Supplier 1: Digi-Key; Supplier Part Number 1: 296-7338-5-ND; Supplier 2: Farnell; Supplier Part Number 2: 2386707; Supplier 3: Newark; Supplier Part Number 3: 08F9076; Supplier 4: Mouser; Supplier Part Number 4: 595-TLC271ACD; Eco-Plan: Green (RoHS & no Sb/Br); Mounting Technology: Surface Mount; Code_JEDEC: MS-012; ComponentLink1Description: Manufacturer URL; ComponentLink1URL: http://www.ti.com/; ComponentLink2Description: Datasheet; ComponentLink2URL: http://www.ti.com/lit/ds/symlink/tlc271a.pdf; ComponentLink3Description: Package Specification; ComponentLink3URL: http://www.ti.com/litv/pdf/msoi002j
footprint TI-D8_N (SOIC, 8-Leads, Body 4.9x3.9mm, Pitch 1.27mm, IPC Medium Density)
footprint TI-D8_L (SOIC, 8-Leads, Body 4.9x3.9mm, Pitch 1.27mm, IPC High Density)
footprint TI-D8_M (SOIC, 8-Leads, Body 4.9x3.9mm, Pitch 1.27mm, IPC Low Density)
pins: 1 OFFSET N1 (in), 2 IN- (in), 3 IN+ (in), 4 GND (power), 5 OFFSET N2 (in), 6 OUT (out), 7 VDD (power), 8 BIAS SELECT (in)

## TLC271ACDG4
designator U?
Programmable Low-Power Operational Amplifier, 3 to 16 V, 0 to 70 degC, 8-pin SOIC (D8), Green (RoHS & no Sb/Br); Manufacturer: Texas Instruments; PartNumber: TLC271ACDG4; CMRR(Min)(dB): 65; GBW(Typ)(MHz): 1.7; IIB(Max)(pA): 60; Iq per channel(Max)(mA): 1.6; Number of Channels: 1; Offset Drift(Typ)(uV/C): 1.8; Rating: Catalog; Slew Rate(Typ)(V/us): 3.6; Sub Family: General Purpose Amplifier; Total Supply Voltage(Max)(+5V is 5, +/-5V is 10): 16; Total Supply Voltage(Min)(+5V is 5, +/-5V is 10): 3; Vio (25C)(Max)(mV): 5; Vn at 1kHz(Typ)(nV/rtHz): 25; DatasheetVersion: SLOS090D; PackageVersion: 4040047-3/M, 06/2011; PackageReference: D8; PackageDescription: 8-Pin Plastic Small Outline, Body 4.9 x 3.9 mm, Pitch 1.27 mm; Supplier 1: Digi-Key; Supplier Part Number 1: TLC271ACDG4-ND; Supplier 2: Farnell; Supplier Part Number 2: 1234674; Supplier 3: Newark; Supplier Part Number 3: 13M5515; Supplier 4: Mouser; Supplier Part Number 4: 595-TLC271ACDG4; Eco-Plan: Green (RoHS & no Sb/Br); Mounting Technology: Surface Mount; Code_JEDEC: MS-012; ComponentLink1Description: Manufacturer URL; ComponentLink1URL: http://www.ti.com/; ComponentLink2Description: Datasheet; ComponentLink2URL: http://www.ti.com/lit/ds/symlink/tlc271a.pdf; ComponentLink3Description: Package Specification; ComponentLink3URL: http://www.ti.com/litv/pdf/msoi002j
footprint TI-D8_N (SOIC, 8-Leads, Body 4.9x3.9mm, Pitch 1.27mm, IPC Medium Density)
footprint TI-D8_L (SOIC, 8-Leads, Body 4.9x3.9mm, Pitch 1.27mm, IPC High Density)
footprint TI-D8_M (SOIC, 8-Leads, Body 4.9x3.9mm, Pitch 1.27mm, IPC Low Density)
pins: 1 OFFSET N1 (in), 2 IN- (in), 3 IN+ (in), 4 GND (power), 5 OFFSET N2 (in), 6 OUT (out), 7 VDD (power), 8 BIAS SELECT (in)

## TLC271ACDR
designator U?
Programmable Low-Power Operational Amplifier, 3 to 16 V, 0 to 70 degC, 8-pin SOIC (D8), Green (RoHS & no Sb/Br); Manufacturer: Texas Instruments; PartNumber: TLC271ACDR; CMRR(Min)(dB): 65; GBW(Typ)(MHz): 1.7; IIB(Max)(pA): 60; Iq per channel(Max)(mA): 1.6; Number of Channels: 1; Offset Drift(Typ)(uV/C): 1.8; Rating: Catalog; Slew Rate(Typ)(V/us): 3.6; Sub Family: General Purpose Amplifier; Total Supply Voltage(Max)(+5V is 5, +/-5V is 10): 16; Total Supply Voltage(Min)(+5V is 5, +/-5V is 10): 3; Vio (25C)(Max)(mV): 5; Vn at 1kHz(Typ)(nV/rtHz): 25; DatasheetVersion: SLOS090D; PackageVersion: 4040047-3/M, 06/2011; PackageReference: D8; PackageDescription: 8-Pin Plastic Small Outline, Body 4.9 x 3.9 mm, Pitch 1.27 mm; Supplier 1: Digi-Key; Supplier Part Number 1: TLC271ACDR-ND; Supplier 2: Mouser; Supplier Part Number 2: 595-TLC271ACDR; Eco-Plan: Green (RoHS & no Sb/Br); Mounting Technology: Surface Mount; Code_JEDEC: MS-012; ComponentLink1Description: Manufacturer URL; ComponentLink1URL: http://www.ti.com/; ComponentLink2Description: Datasheet; ComponentLink2URL: http://www.ti.com/lit/ds/symlink/tlc271a.pdf; ComponentLink3Description: Package Specification; ComponentLink3URL: http://www.ti.com/litv/pdf/msoi002j
footprint TI-D8_N (SOIC, 8-Leads, Body 4.9x3.9mm, Pitch 1.27mm, IPC Medium Density)
footprint TI-D8_L (SOIC, 8-Leads, Body 4.9x3.9mm, Pitch 1.27mm, IPC High Density)
footprint TI-D8_M (SOIC, 8-Leads, Body 4.9x3.9mm, Pitch 1.27mm, IPC Low Density)
pins: 1 OFFSET N1 (in), 2 IN- (in), 3 IN+ (in), 4 GND (power), 5 OFFSET N2 (in), 6 OUT (out), 7 VDD (power), 8 BIAS SELECT (in)

## TLC271ACDRG4
designator U?
Programmable Low-Power Operational Amplifier, 3 to 16 V, 0 to 70 degC, 8-pin SOIC (D8), Green (RoHS & no Sb/Br); Manufacturer: Texas Instruments; PartNumber: TLC271ACDRG4; CMRR(Min)(dB): 65; GBW(Typ)(MHz): 1.7; IIB(Max)(pA): 60; Iq per channel(Max)(mA): 1.6; Number of Channels: 1; Offset Drift(Typ)(uV/C): 1.8; Rating: Catalog; Slew Rate(Typ)(V/us): 3.6; Sub Family: General Purpose Amplifier; Total Supply Voltage(Max)(+5V is 5, +/-5V is 10): 16; Total Supply Voltage(Min)(+5V is 5, +/-5V is 10): 3; Vio (25C)(Max)(mV): 5; Vn at 1kHz(Typ)(nV/rtHz): 25; DatasheetVersion: SLOS090D; PackageVersion: 4040047-3/M, 06/2011; PackageReference: D8; PackageDescription: 8-Pin Plastic Small Outline, Body 4.9 x 3.9 mm, Pitch 1.27 mm; Supplier 1: Digi-Key; Supplier Part Number 1: TLC271ACDRG4-ND; Supplier 2: Mouser; Supplier Part Number 2: 595-TLC271ACDRG4; Eco-Plan: Green (RoHS & no Sb/Br); Mounting Technology: Surface Mount; Code_JEDEC: MS-012; ComponentLink1Description: Manufacturer URL; ComponentLink1URL: http://www.ti.com/; ComponentLink2Description: Datasheet; ComponentLink2URL: http://www.ti.com/lit/ds/symlink/tlc271a.pdf; ComponentLink3Description: Package Specification; ComponentLink3URL: http://www.ti.com/litv/pdf/msoi002j
footprint TI-D8_N (SOIC, 8-Leads, Body 4.9x3.9mm, Pitch 1.27mm, IPC Medium Density)
footprint TI-D8_L (SOIC, 8-Leads, Body 4.9x3.9mm, Pitch 1.27mm, IPC High Density)
footprint TI-D8_M (SOIC, 8-Leads, Body 4.9x3.9mm, Pitch 1.27mm, IPC Low Density)
pins: 1 OFFSET N1 (in), 2 IN- (in), 3 IN+ (in), 4 GND (power), 5 OFFSET N2 (in), 6 OUT (out), 7 VDD (power), 8 BIAS SELECT (in)

## TLC271ACP
designator U?
Programmable Low-Power Operational Amplifier, 3 to 16 V, 0 to 70 degC, 8-pin DIP (P8), Pb-Free (RoHS); Manufacturer: Texas Instruments; PartNumber: TLC271ACP; CMRR(Min)(dB): 65; GBW(Typ)(MHz): 1.7; IIB(Max)(pA): 60; Iq per channel(Max)(mA): 1.6; Number of Channels: 1; Offset Drift(Typ)(uV/C): 1.8; Rating: Catalog; Slew Rate(Typ)(V/us): 3.6; Sub Family: General Purpose Amplifier; Total Supply Voltage(Max)(+5V is 5, +/-5V is 10): 16; Total Supply Voltage(Min)(+5V is 5, +/-5V is 10): 3; Vio (25C)(Max)(mV): 5; Vn at 1kHz(Typ)(nV/rtHz): 25; DatasheetVersion: SLOS090D; PackageVersion: 4040082/E, 04/2010; PackageReference: P8; PackageDescription: 8-Pin Plastic In-Line, Body 9.59 x 6.35 mm, Pitch 2.54 mm; Supplier 1: Digi-Key; Supplier Part Number 1: 296-7339-5-ND; Supplier 2: Farnell; Supplier Part Number 2: 8454140; Supplier 3: Newark; Supplier Part Number 3: 36K3641; Supplier 4: Mouser; Supplier Part Number 4: 595-TLC271ACP; Eco-Plan: Pb-Free (RoHS); Mounting Technology: Through Hole; Code_JEDEC: MS-001; ComponentLink1Description: Manufacturer URL; ComponentLink1URL: http://www.ti.com/; ComponentLink2Description: Datasheet; ComponentLink2URL: http://www.ti.com/lit/ds/symlink/tlc271a.pdf; ComponentLink3Description: Package Specification; ComponentLink3URL: http://www.ti.com/litv/pdf/mpdi001b
footprint TI-P8 (DIP, 8-Leads, Body 9.59x6.35mm, Pitch 2.54mm)
pins: 1 OFFSET N1 (in), 2 IN- (in), 3 IN+ (in), 4 GND (power), 5 OFFSET N2 (in), 6 OUT (out), 7 VDD (power), 8 BIAS SELECT (in)

## TLC271ACPE4
designator U?
Programmable Low-Power Operational Amplifier, 3 to 16 V, 0 to 70 degC, 8-pin DIP (P8), Pb-Free (RoHS); Manufacturer: Texas Instruments; PartNumber: TLC271ACPE4; CMRR(Min)(dB): 65; GBW(Typ)(MHz): 1.7; IIB(Max)(pA): 60; Iq per channel(Max)(mA): 1.6; Number of Channels: 1; Offset Drift(Typ)(uV/C): 1.8; Rating: Catalog; Slew Rate(Typ)(V/us): 3.6; Sub Family: General Purpose Amplifier; Total Supply Voltage(Max)(+5V is 5, +/-5V is 10): 16; Total Supply Voltage(Min)(+5V is 5, +/-5V is 10): 3; Vio (25C)(Max)(mV): 5; Vn at 1kHz(Typ)(nV/rtHz): 25; DatasheetVersion: SLOS090D; PackageVersion: 4040082/E, 04/2010; PackageReference: P8; PackageDescription: 8-Pin Plastic In-Line, Body 9.59 x 6.35 mm, Pitch 2.54 mm; Supplier 1: Digi-Key; Supplier Part Number 1: TLC271ACPE4-ND; Supplier 2: Newark; Supplier Part Number 2: 24K5266; Supplier 3: Mouser; Supplier Part Number 3: 595-TLC271ACPE4; Eco-Plan: Pb-Free (RoHS); Mounting Technology: Through Hole; Code_JEDEC: MS-001; ComponentLink1Description: Manufacturer URL; ComponentLink1URL: http://www.ti.com/; ComponentLink2Description: Datasheet; ComponentLink2URL: http://www.ti.com/lit/ds/symlink/tlc271a.pdf; ComponentLink3Description: Package Specification; ComponentLink3URL: http://www.ti.com/litv/pdf/mpdi001b
footprint TI-P8 (DIP, 8-Leads, Body 9.59x6.35mm, Pitch 2.54mm)
pins: 1 OFFSET N1 (in), 2 IN- (in), 3 IN+ (in), 4 GND (power), 5 OFFSET N2 (in), 6 OUT (out), 7 VDD (power), 8 BIAS SELECT (in)

## TLC271AID
designator U?
Programmable Low-Power Operational Amplifier, 4 to 16 V, -40 to 85 degC, 8-pin SOIC (D8), Green (RoHS & no Sb/Br); Manufacturer: Texas Instruments; PartNumber: TLC271AID; CMRR(Min)(dB): 65; GBW(Typ)(MHz): 1.7; IIB(Max)(pA): 60; Iq per channel(Max)(mA): 1.6; Number of Channels: 1; Offset Drift(Typ)(uV/C): 1.8; Rating: Catalog; Slew Rate(Typ)(V/us): 3.6; Sub Family: General Purpose Amplifier; Total Supply Voltage(Max)(+5V is 5, +/-5V is 10): 16; Total Supply Voltage(Min)(+5V is 5, +/-5V is 10): 4; Vio (25C)(Max)(mV): 5; Vn at 1kHz(Typ)(nV/rtHz): 25; DatasheetVersion: SLOS090D; PackageVersion: 4040047-3/M, 06/2011; PackageReference: D8; PackageDescription: 8-Pin Plastic Small Outline, Body 4.9 x 3.9 mm, Pitch 1.27 mm; Supplier 1: Digi-Key; Supplier Part Number 1: 296-7340-5-ND; Supplier 2: Newark; Supplier Part Number 2: 76C7188; Supplier 3: Mouser; Supplier Part Number 3: 595-TLC271AID; Eco-Plan: Green (RoHS & no Sb/Br); Mounting Technology: Surface Mount; Code_JEDEC: MS-012; ComponentLink1Description: Manufacturer URL; ComponentLink1URL: http://www.ti.com/; ComponentLink2Description: Datasheet; ComponentLink2URL: http://www.ti.com/lit/ds/symlink/tlc271a.pdf; ComponentLink3Description: Package Specification; ComponentLink3URL: http://www.ti.com/litv/pdf/msoi002j
footprint TI-D8_N (SOIC, 8-Leads, Body 4.9x3.9mm, Pitch 1.27mm, IPC Medium Density)
footprint TI-D8_L (SOIC, 8-Leads, Body 4.9x3.9mm, Pitch 1.27mm, IPC High Density)
footprint TI-D8_M (SOIC, 8-Leads, Body 4.9x3.9mm, Pitch 1.27mm, IPC Low Density)
pins: 1 OFFSET N1 (in), 2 IN- (in), 3 IN+ (in), 4 GND (power), 5 OFFSET N2 (in), 6 OUT (out), 7 VDD (power), 8 BIAS SELECT (in)

## TLC271AIDG4
designator U?
Programmable Low-Power Operational Amplifier, 4 to 16 V, -40 to 85 degC, 8-pin SOIC (D8), Green (RoHS & no Sb/Br); Manufacturer: Texas Instruments; PartNumber: TLC271AIDG4; CMRR(Min)(dB): 65; GBW(Typ)(MHz): 1.7; IIB(Max)(pA): 60; Iq per channel(Max)(mA): 1.6; Number of Channels: 1; Offset Drift(Typ)(uV/C): 1.8; Rating: Catalog; Slew Rate(Typ)(V/us): 3.6; Sub Family: General Purpose Amplifier; Total Supply Voltage(Max)(+5V is 5, +/-5V is 10): 16; Total Supply Voltage(Min)(+5V is 5, +/-5V is 10): 4; Vio (25C)(Max)(mV): 5; Vn at 1kHz(Typ)(nV/rtHz): 25; DatasheetVersion: SLOS090D; PackageVersion: 4040047-3/M, 06/2011; PackageReference: D8; PackageDescription: 8-Pin Plastic Small Outline, Body 4.9 x 3.9 mm, Pitch 1.27 mm; Supplier 1: Digi-Key; Supplier Part Number 1: TLC271AIDG4-ND; Supplier 2: Farnell; Supplier Part Number 2: 1234854; Supplier 3: Newark; Supplier Part Number 3: 13M5516; Supplier 4: Mouser; Supplier Part Number 4: 595-TLC271AIDG4; Eco-Plan: Green (RoHS & no Sb/Br); Mounting Technology: Surface Mount; Code_JEDEC: MS-012; ComponentLink1Description: Manufacturer URL; ComponentLink1URL: http://www.ti.com/; ComponentLink2Description: Datasheet; ComponentLink2URL: http://www.ti.com/lit/ds/symlink/tlc271a.pdf; ComponentLink3Description: Package Specification; ComponentLink3URL: http://www.ti.com/litv/pdf/msoi002j
footprint TI-D8_N (SOIC, 8-Leads, Body 4.9x3.9mm, Pitch 1.27mm, IPC Medium Density)
footprint TI-D8_L (SOIC, 8-Leads, Body 4.9x3.9mm, Pitch 1.27mm, IPC High Density)
footprint TI-D8_M (SOIC, 8-Leads, Body 4.9x3.9mm, Pitch 1.27mm, IPC Low Density)
pins: 1 OFFSET N1 (in), 2 IN- (in), 3 IN+ (in), 4 GND (power), 5 OFFSET N2 (in), 6 OUT (out), 7 VDD (power), 8 BIAS SELECT (in)

## TLC271AIDR
designator U?
Programmable Low-Power Operational Amplifier, 4 to 16 V, -40 to 85 degC, 8-pin SOIC (D8), Green (RoHS & no Sb/Br); Manufacturer: Texas Instruments; PartNumber: TLC271AIDR; CMRR(Min)(dB): 65; GBW(Typ)(MHz): 1.7; IIB(Max)(pA): 60; Iq per channel(Max)(mA): 1.6; Number of Channels: 1; Offset Drift(Typ)(uV/C): 1.8; Rating: Catalog; Slew Rate(Typ)(V/us): 3.6; Sub Family: General Purpose Amplifier; Total Supply Voltage(Max)(+5V is 5, +/-5V is 10): 16; Total Supply Voltage(Min)(+5V is 5, +/-5V is 10): 4; Vio (25C)(Max)(mV): 5; Vn at 1kHz(Typ)(nV/rtHz): 25; DatasheetVersion: SLOS090D; PackageVersion: 4040047-3/M, 06/2011; PackageReference: D8; PackageDescription: 8-Pin Plastic Small Outline, Body 4.9 x 3.9 mm, Pitch 1.27 mm; Supplier 1: Digi-Key; Supplier Part Number 1: TLC271AIDR-ND; Supplier 2: Mouser; Supplier Part Number 2: 595-TLC271AIDR; Eco-Plan: Green (RoHS & no Sb/Br); Mounting Technology: Surface Mount; Code_JEDEC: MS-012; ComponentLink1Description: Manufacturer URL; ComponentLink1URL: http://www.ti.com/; ComponentLink2Description: Datasheet; ComponentLink2URL: http://www.ti.com/lit/ds/symlink/tlc271a.pdf; ComponentLink3Description: Package Specification; ComponentLink3URL: http://www.ti.com/litv/pdf/msoi002j
footprint TI-D8_N (SOIC, 8-Leads, Body 4.9x3.9mm, Pitch 1.27mm, IPC Medium Density)
footprint TI-D8_L (SOIC, 8-Leads, Body 4.9x3.9mm, Pitch 1.27mm, IPC High Density)
footprint TI-D8_M (SOIC, 8-Leads, Body 4.9x3.9mm, Pitch 1.27mm, IPC Low Density)
pins: 1 OFFSET N1 (in), 2 IN- (in), 3 IN+ (in), 4 GND (power), 5 OFFSET N2 (in), 6 OUT (out), 7 VDD (power), 8 BIAS SELECT (in)

## TLC271AIDRG4
designator U?
Programmable Low-Power Operational Amplifier, 4 to 16 V, -40 to 85 degC, 8-pin SOIC (D8), Green (RoHS & no Sb/Br); Manufacturer: Texas Instruments; PartNumber: TLC271AIDRG4; CMRR(Min)(dB): 65; GBW(Typ)(MHz): 1.7; IIB(Max)(pA): 60; Iq per channel(Max)(mA): 1.6; Number of Channels: 1; Offset Drift(Typ)(uV/C): 1.8; Rating: Catalog; Slew Rate(Typ)(V/us): 3.6; Sub Family: General Purpose Amplifier; Total Supply Voltage(Max)(+5V is 5, +/-5V is 10): 16; Total Supply Voltage(Min)(+5V is 5, +/-5V is 10): 4; Vio (25C)(Max)(mV): 5; Vn at 1kHz(Typ)(nV/rtHz): 25; DatasheetVersion: SLOS090D; PackageVersion: 4040047-3/M, 06/2011; PackageReference: D8; PackageDescription: 8-Pin Plastic Small Outline, Body 4.9 x 3.9 mm, Pitch 1.27 mm; Supplier 1: Digi-Key; Supplier Part Number 1: TLC271AIDRG4-ND; Supplier 2: Mouser; Supplier Part Number 2: 595-TLC271AIDRG4; Eco-Plan: Green (RoHS & no Sb/Br); Mounting Technology: Surface Mount; Code_JEDEC: MS-012; ComponentLink1Description: Manufacturer URL; ComponentLink1URL: http://www.ti.com/; ComponentLink2Description: Datasheet; ComponentLink2URL: http://www.ti.com/lit/ds/symlink/tlc271a.pdf; ComponentLink3Description: Package Specification; ComponentLink3URL: http://www.ti.com/litv/pdf/msoi002j
footprint TI-D8_N (SOIC, 8-Leads, Body 4.9x3.9mm, Pitch 1.27mm, IPC Medium Density)
footprint TI-D8_L (SOIC, 8-Leads, Body 4.9x3.9mm, Pitch 1.27mm, IPC High Density)
footprint TI-D8_M (SOIC, 8-Leads, Body 4.9x3.9mm, Pitch 1.27mm, IPC Low Density)
pins: 1 OFFSET N1 (in), 2 IN- (in), 3 IN+ (in), 4 GND (power), 5 OFFSET N2 (in), 6 OUT (out), 7 VDD (power), 8 BIAS SELECT (in)

## TLC271AIP
designator U?
Programmable Low-Power Operational Amplifier, 4 to 16 V, -40 to 85 degC, 8-pin DIP (P8), Pb-Free (RoHS); Manufacturer: Texas Instruments; PartNumber: TLC271AIP; CMRR(Min)(dB): 65; GBW(Typ)(MHz): 1.7; IIB(Max)(pA): 60; Iq per channel(Max)(mA): 1.6; Number of Channels: 1; Offset Drift(Typ)(uV/C): 1.8; Rating: Catalog; Slew Rate(Typ)(V/us): 3.6; Sub Family: General Purpose Amplifier; Total Supply Voltage(Max)(+5V is 5, +/-5V is 10): 16; Total Supply Voltage(Min)(+5V is 5, +/-5V is 10): 4; Vio (25C)(Max)(mV): 5; Vn at 1kHz(Typ)(nV/rtHz): 25; DatasheetVersion: SLOS090D; PackageVersion: 4040082/E, 04/2010; PackageReference: P8; PackageDescription: 8-Pin Plastic In-Line, Body 9.59 x 6.35 mm, Pitch 2.54 mm; Supplier 1: Digi-Key; Supplier Part Number 1: 296-7341-5-ND; Supplier 2: Newark; Supplier Part Number 2: 92F499; Supplier 3: Mouser; Supplier Part Number 3: 595-TLC271AIP; Eco-Plan: Pb-Free (RoHS); Mounting Technology: Through Hole; Code_JEDEC: MS-001; ComponentLink1Description: Manufacturer URL; ComponentLink1URL: http://www.ti.com/; ComponentLink2Description: Datasheet; ComponentLink2URL: http://www.ti.com/lit/ds/symlink/tlc271a.pdf; ComponentLink3Description: Package Specification; ComponentLink3URL: http://www.ti.com/litv/pdf/mpdi001b
footprint TI-P8 (DIP, 8-Leads, Body 9.59x6.35mm, Pitch 2.54mm)
pins: 1 OFFSET N1 (in), 2 IN- (in), 3 IN+ (in), 4 GND (power), 5 OFFSET N2 (in), 6 OUT (out), 7 VDD (power), 8 BIAS SELECT (in)

## TLC271AIPE4
designator U?
Programmable Low-Power Operational Amplifier, 4 to 16 V, -40 to 85 degC, 8-pin DIP (P8), Pb-Free (RoHS); Manufacturer: Texas Instruments; PartNumber: TLC271AIPE4; CMRR(Min)(dB): 65; GBW(Typ)(MHz): 1.7; IIB(Max)(pA): 60; Iq per channel(Max)(mA): 1.6; Number of Channels: 1; Offset Drift(Typ)(uV/C): 1.8; Rating: Catalog; Slew Rate(Typ)(V/us): 3.6; Sub Family: General Purpose Amplifier; Total Supply Voltage(Max)(+5V is 5, +/-5V is 10): 16; Total Supply Voltage(Min)(+5V is 5, +/-5V is 10): 4; Vio (25C)(Max)(mV): 5; Vn at 1kHz(Typ)(nV/rtHz): 25; DatasheetVersion: SLOS090D; PackageVersion: 4040082/E, 04/2010; PackageReference: P8; PackageDescription: 8-Pin Plastic In-Line, Body 9.59 x 6.35 mm, Pitch 2.54 mm; Supplier 1: Digi-Key; Supplier Part Number 1: TLC271AIPE4-ND; Supplier 2: Newark; Supplier Part Number 2: 24K5267; Supplier 3: Mouser; Supplier Part Number 3: 595-TLC271AIPE4; Eco-Plan: Pb-Free (RoHS); Mounting Technology: Through Hole; Code_JEDEC: MS-001; ComponentLink1Description: Manufacturer URL; ComponentLink1URL: http://www.ti.com/; ComponentLink2Description: Datasheet; ComponentLink2URL: http://www.ti.com/lit/ds/symlink/tlc271a.pdf; ComponentLink3Description: Package Specification; ComponentLink3URL: http://www.ti.com/litv/pdf/mpdi001b
footprint TI-P8 (DIP, 8-Leads, Body 9.59x6.35mm, Pitch 2.54mm)
pins: 1 OFFSET N1 (in), 2 IN- (in), 3 IN+ (in), 4 GND (power), 5 OFFSET N2 (in), 6 OUT (out), 7 VDD (power), 8 BIAS SELECT (in)